# Altium schematic symbol library M74VHC1GT125DF1G .Schlib: 1 symbol
Pins are listed as number, name and electrical type; pins without a type are passive.

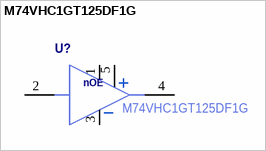
[diagram p0: symbol M74VHC1GT125DF1G]

## M74VHC1GT125DF1G
designator U?
Manufacturer Part Number: M74VHC1GT125DF1G
pins: 1 ~{OE}, 2, 3 GND, 4 OutY, 5 VCC
text: nOE